# Altium footprint library Tag102 Rev20.PcbLib: 19 footprints (part 2 of 2)
Each footprint in its own frame and in the unit in brackets; x right, y up, seen from the top. Pads: shape width x height; smd on the part's side, far side on the other; paste and mask are expansions set on the pad; w line width, h text height; cw(c..) or ccw(c..) is an arc to the next point about the centre after c.
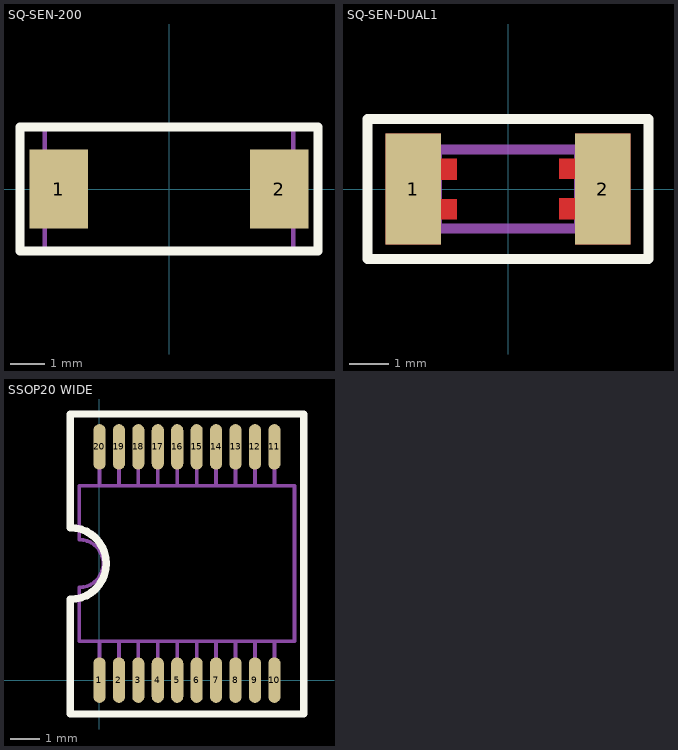
[diagram p1: the footprints below, top view; thin cyan lines are the x and y axes]

## SQ-SEN-200 [mm]
pads (2):
  rect 1.7x2.3 smd: 1(-3.2,0) 2(3.2,0)
Top Overlay:
  lines w0.254: -4.318,-1.8 -4.318,1.8 4.318,1.8 4.318,-1.8 -4.318,-1.8
Mechanical 1:
  lines w0.125: -3.6,-1.8 3.6,-1.8 3.6,1.8 -3.6,1.8 -3.6,-1.8
Mechanical 8:
  text ".Designator" at -0.508,0.787 h0.5
Mechanical 9:
  text ".Comment" at -1.727,-0.432 h0.25

## SQ-SEN-DUAL1 [mm]
pads (2):
  rect 1.4x2.8 smd: 1(-2.4,0) 2(2.4,0)
Top Layer:
  region: -1.702,-1.397 -1.702,-0.762 -1.295,-0.762 -1.295,-0.254 -1.702,-0.254 -1.702,0.229 -1.295,0.229 -1.295,0.762 -1.702,0.762 -1.702,1.397 -3.099,1.397 -3.099,-1.397
  region: 1.702,1.397 1.702,0.762 1.295,0.762 1.295,0.254 1.702,0.254 1.702,-0.229 1.295,-0.229 1.295,-0.762 1.702,-0.762 1.702,-1.397 3.099,-1.397 3.099,1.397
Top Overlay:
  lines w0.254: -3.556,-1.778 -3.556,1.778 3.556,1.778 3.556,-1.778 -3.556,-1.778
Mechanical 1:
  lines w0.254: -1.8,-1 -1.8,1 1.8,1 1.8,-1 -1.8,-1
Mechanical 8:
  text ".Designator" at -0.762,-0.381 h0.76

## SSOP20 WIDE [mil]
pads (20):
  oval 16x60 smd mask+2: 1(0,0) 2(25.59,0) 3(51.18,0) 4(76.77,0) 5(102.36,0) 6(127.95,0) 7(153.54,0) 8(179.13,0) 9(204.72,0) 10(230.31,0) 11(230.31,307.09) 12(204.72,307.09) 13(179.13,307.09) 14(153.54,307.09) 15(127.95,307.09) 16(102.36,307.09) 17(76.77,307.09) 18(51.18,307.09) 19(25.59,307.09) 20(0,307.09)
Top Overlay:
  lines w9.84: -38.39,106.3 -38.39,-44.61 268.7,-44.61 ; -38.39,200.79 -38.39,283.46 -38.39,350.39 268.7,350.39 268.7,271.65 268.7,-43.31
  lines w10: -38.39,106.3 ccw(c-38.39,153.54) -38.39,200.79
Mechanical 1:
  lines w4.92: 0,-7.87 0,51.18 ; 0,255.91 0,314.96 ; 25.59,-7.87 25.59,51.18 ; 25.59,255.91 25.59,314.96 ; 51.18,-7.87 51.18,51.18 ; 51.18,255.91 51.18,314.96 ; 76.77,-7.87 76.77,51.18 ; 76.77,255.91 76.77,314.96 ; 102.36,-7.87 102.36,51.18 ; 102.36,255.91 102.36,314.96 ; 127.95,-7.87 127.95,51.18 ; 127.95,255.91 127.95,314.96 ; 153.54,-7.87 153.54,51.18 ; 153.54,255.91 153.54,314.96 ; 179.13,-7.87 179.13,51.18 ; 179.13,255.91 179.13,314.96 ; 204.72,-7.87 204.72,51.18 ; 204.72,255.91 204.72,314.96 ; 230.31,-7.87 230.31,51.18 ; 230.31,255.91 230.31,314.96 ; -26.57,51.18 115.16,51.18 256.89,51.18 256.89,153.54 256.89,255.91 115.16,255.91 -26.57,255.91 -26.57,185.04 cw(c-26.57,153.54) -26.57,122.05 -26.57,51.18
Mechanical 8:
  text ".Designator" at 130,126 h19.68
Mechanical 9:
  text ".Comment" at 155,156 h9.84